# Altium footprint library OSCCC500X320X85L90X120N.PcbLib: 1 footprints
Each footprint in its own frame and in the unit in brackets; x right, y up, seen from the top. Pads: shape width x height; smd on the part's side, far side on the other; paste and mask are expansions set on the pad; w line width, h text height; cw(c..) or ccw(c..) is an arc to the next point about the centre after c.
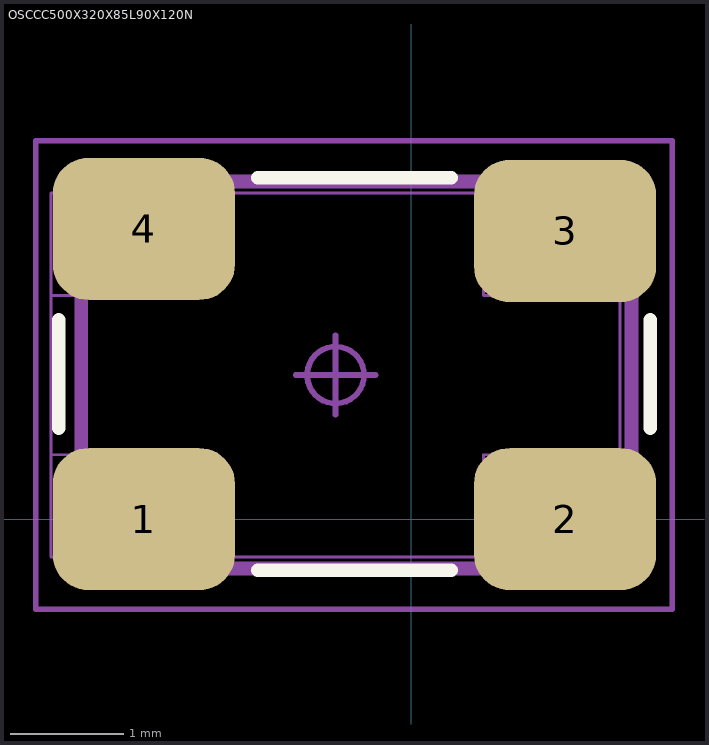
[diagram p0: the footprint, top view; thin cyan lines are the x and y axes]

## OSCCC500X320X85L90X120N [mm] "Oscillator, Corner Concave; 5.00 mm L X 3.20 mm W X 0.85 mm H Body"
height 0.85
pads (4):
  rrect50% 1.6x1.25 smd: 1(-2.35,0) 2(1.35,0) 3(1.35,2.532) 4(-2.35,2.55)
Top Overlay:
  lines w0.12: -3.1,0.8 -3.1,1.75 ; -1.35,-0.45 0.35,-0.45 ; -1.35,3 0.35,3 ; 2.1,0.8 2.1,1.75
Mechanical 3:
  lines w0.12: -2.9,-0.05 -2.9,2.966 1.934,2.966 1.934,-0.434 -2.516,-0.434 -2.9,-0.05
Mechanical 5:
  lines w0.025: -3.166,-0.334 1.834,-0.334 ; -3.166,-0.334 -3.166,2.866 ; -3.166,-0.334 -3.166,0.566 -1.966,0.566 -1.966,-0.334 -3.166,-0.334 ; -3.166,2.866 1.834,2.866 ; -3.166,2.866 -1.966,2.866 -1.966,1.966 -3.166,1.966 -3.166,2.866 ; 1.834,-0.334 1.834,2.866 ; 1.834,-0.334 0.634,-0.334 0.634,0.566 1.834,0.566 1.834,-0.334 ; 1.834,2.866 1.834,1.966 0.634,1.966 0.634,2.866 1.834,2.866
Mechanical 7:
  circle w0.05: c-0.666,1.266 r0.25
  lines w0.05: -1.016,1.266 -0.316,1.266 ; -0.666,0.916 -0.666,1.616 ; -3.3,-0.791 2.291,-0.791 2.291,3.323 -3.3,3.323 -3.3,-0.791
Mechanical 9:
  text "'.Designator'" at -6.483,0.868 h1.02
3D body "ECS-240-18-30B-CHN-TR.STEP": height 0.86, standoff 0.01, extent -3,-0.35 2,2.85
3D body: height 0.85, standoff 0, extent -3.3,-0.791 2.291,3.323